# Altium schematic symbol library DRIVER_WQFN - DRV8323RSRTR.SchLib: 1 symbol
Pins are listed as number, name and electrical type; pins without a type are passive.

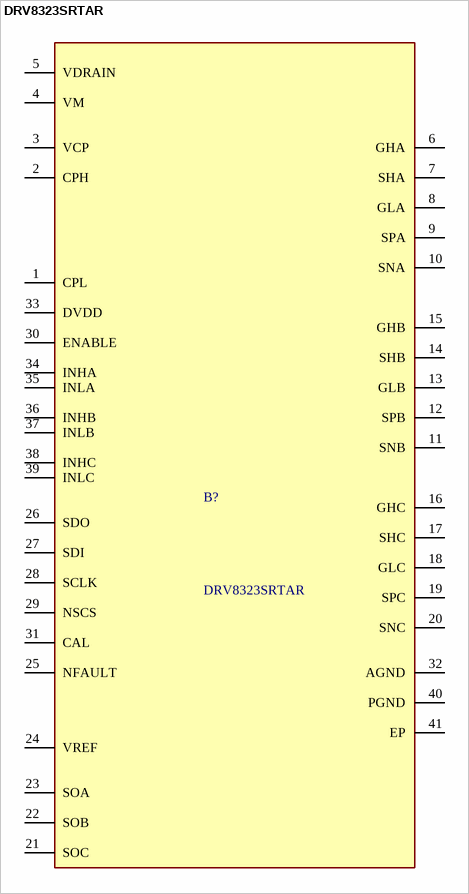
[diagram p0: symbol DRV8323SRTAR]

## DRV8323SRTAR
designator B?
Gate Drivers 60V Three-Phase Smart Gate Driver With Three Current Shunt Amplifiers 40-WQFN -40 to 125; Manufacturer_Name: Texas Instruments; Geometry.Height: 0.8mm; Mouser Part Number: 595-DRV8323SRTAR; Mouser Price/Stock: https://www.mouser.co.uk/ProductDetail/Texas-Instruments/DRV8323SRTAR?qs=u4fy%2FsgLU9P2gpPTX6mffg%3D%3D; Manufacturer_Part_Number: DRV8323SRTAR; Datasheet Link: http://www.ti.com/lit/ds/symlink/drv8323.pdf; Supplier 1: Mouser; Supplier Part Number 1: 595-DRV8323SRTAR
footprint 40-WQFN - TEXAS
pins: 1 CPL (power), 2 CPH (power), 3 VCP (power), 4 VM (power), 5 VDRAIN, 6 GHA, 7 SHA, 8 GLA, 9 SPA, 10 SNA, 11 SNB, 12 SPB, 13 GLB, 14 SHB, 15 GHB, 16 GHC, 17 SHC, 18 GLC, 19 SPC, 20 SNC, 21 SOC, 22 SOB, 23 SOA, 24 VREF (power), 25 NFAULT, 26 SDO, 27 SDI, 28 SCLK, 29 NSCS, 30 ENABLE, 31 CAL, 32 AGND (power), 33 DVDD (power), 34 INHA, 35 INLA, 36 INHB, 37 INLB, 38 INHC, 39 INLC, 40 PGND (power), 41 EP